# EAGLE library part MT8812 (library MT8812)
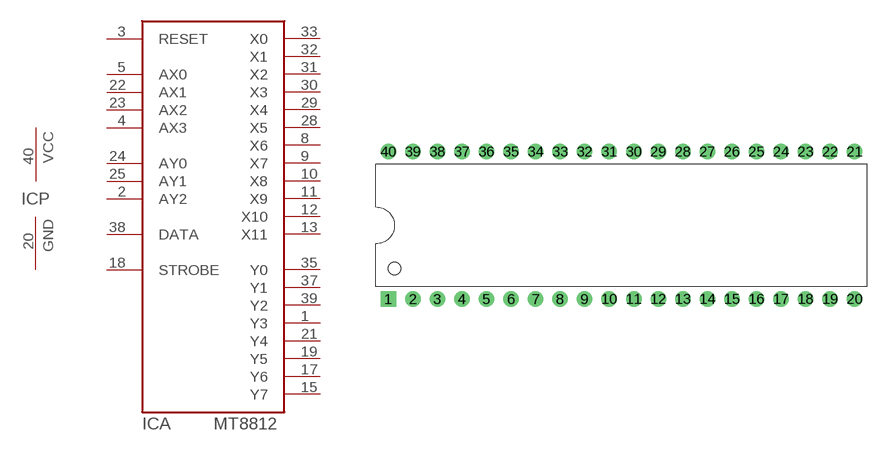
[diagram p0: symbol with the pads of DIP40; footprint DIP40]

Designator prefix IC; gates A=MT8812 P=PWR-GND

## MT8812  [DIP40]
1  A:Y3
2  A:AY2  in
3  A:RESET  in
4  A:AX3  in
5  A:AX0  in
8  A:X6
9  A:X7
10  A:X8
11  A:X9
12  A:X10
13  A:X11
15  A:Y7
17  A:Y6
18  A:STROBE  in
19  A:Y5
20  P:GND  pwr
21  A:Y4
22  A:AX1  in
23  A:AX2  in
24  A:AY0  in
25  A:AY1  in
28  A:X5
29  A:X4
30  A:X3
31  A:X2
32  A:X1
33  A:X0
35  A:Y0
37  A:Y1
38  A:DATA  in
39  A:Y2
40  P:VCC  pwr

## Footprint DIP40 (pad centres in mm)
drill 0.889 pad 1.6 square: 1 -22.86,-7.62
drill 0.889 pad 1.6: 2 -20.32,-7.62; 3 -17.78,-7.62; 4 -15.24,-7.62; 5 -12.7,-7.62; 6 -10.16,-7.62; 7 -7.62,-7.62; 8 -5.08,-7.62; 9 -2.54,-7.62; 10 0,-7.62; 11 2.54,-7.62; 12 5.08,-7.62; 13 7.62,-7.62; 14 10.16,-7.62; 15 12.7,-7.62; 16 15.24,-7.62; 17 17.78,-7.62; 18 20.32,-7.62; 19 22.86,-7.62; 20 25.4,-7.62; 21 25.4,7.62; 22 22.86,7.62; 23 20.32,7.62; 24 17.78,7.62; 25 15.24,7.62; 26 12.7,7.62; 27 10.16,7.62; 28 7.62,7.62; 29 5.08,7.62; 30 2.54,7.62; 31 0,7.62; 32 -2.54,7.62; 33 -5.08,7.62; 34 -7.62,7.62; 35 -10.16,7.62; 36 -12.7,7.62; 37 -15.24,7.62; 38 -17.78,7.62; 39 -20.32,7.62; 40 -22.86,7.62